# Altium footprint library MCHP-SOT23-6L.PcbLib: 1 footprints
Each footprint in its own frame and in the unit in brackets; x right, y up, seen from the top. Pads: shape width x height; smd on the part's side, far side on the other; paste and mask are expansions set on the pad; w line width, h text height; cw(c..) or ccw(c..) is an arc to the next point about the centre after c.
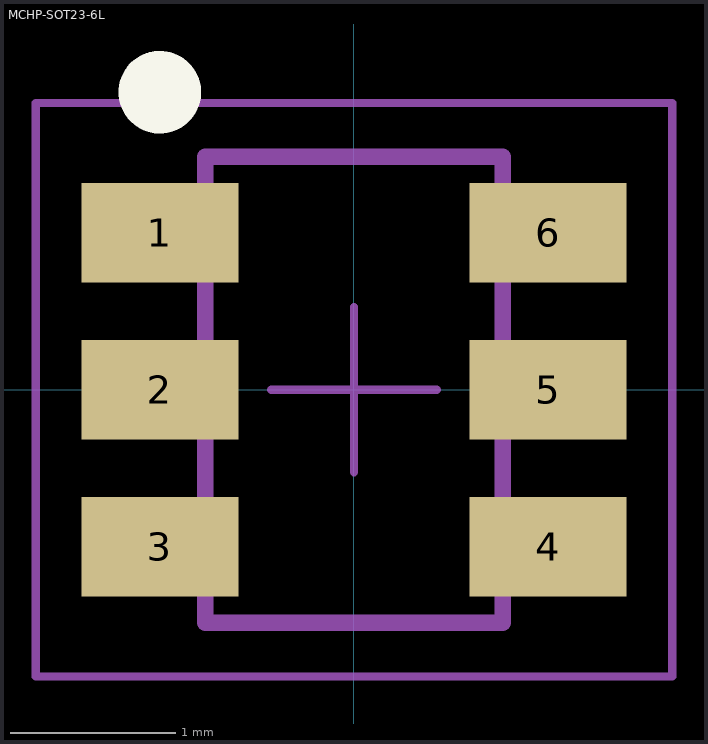
[diagram p0: the footprint, top view; thin cyan lines are the x and y axes]

## MCHP-SOT23-6L [mm] "SOT23, 6-Leads, Body 3.1x3.2mm (max), Pitch 0.95mm, IPC High Density"
height 1.45
pads (6):
  rect 0.95x0.6 smd: 1(-1.175,0.95) 2(-1.175,0) 3(-1.175,-0.95) 4(1.175,-0.95) 5(1.175,0) 6(1.175,0.95)
Top Overlay:
  circle w0.25: c-1.175,1.8 r0.125
Mechanical 13:
  lines w0.1: -0.9,-1.41 0.9,-1.41 0.9,1.41 -0.9,1.41 -0.9,-1.41
Mechanical 15:
  lines w0.05: -0.5,0 0.5,0 ; 0,-0.5 0,0.5 ; -1.925,-1.735 1.925,-1.735 1.925,1.735 -1.925,1.735 -1.925,-1.735
3D body: height 1.09, standoff 0, extent -1.213,-1.397 1.213,1.397